# EAGLE library part ULN2003D1013TR (library e-Lib-ICs)
ULN2003 - Seven Darlington Array The ULN2001, ULN2002, ULN2003 and ULN 2004 are high voltage, high current Darlington arrays each containing seven open collector Darlington pairs with common emitters. Each channel rated at 500 mA and can withstand peak currents of 600 mA. Suppression diodes are included for inductive load driving and the inputs are pinned opposite the outputs to simplify board layout. Features: Seven Darlingtons per package Output current 500 mA per driver (600 mA peak) Output voltage 50 V Integrated suppression diodes for inductive loads Outputs can be paralleled for higher current TTL/CMOS/PMOS/DTL compatible inputs Inputs pinned opposite outputs to simplify layout Datasheet: ULN2003 <https://datasheet.lcsc.com/szlcsc/1811131510_STMicroelectronics-ULN2003D1013TR_C61273.pdf>
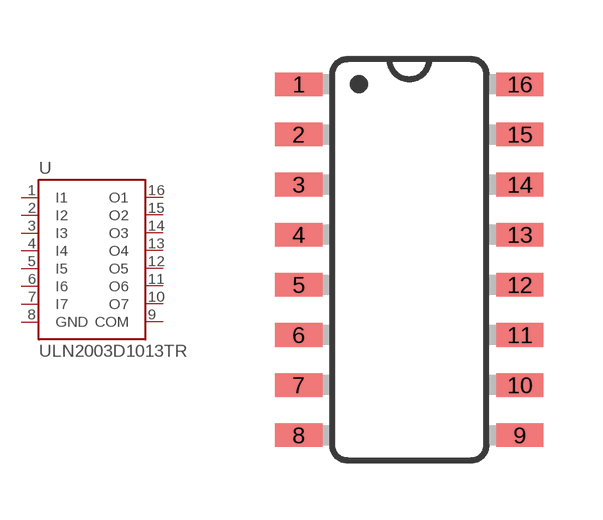
[diagram p0: symbol with the pads of SOP16; footprint SOP16]

Designator prefix U

## ULN2003D1013TR  [SOP16]
1  I1
2  I2
3  I3
4  I4
5  I5
6  I6
7  I7
8  GND
9  COM
10  O7
11  O6
12  O5
13  O4
14  O3
15  O2
16  O1

## Footprint SOP16 (pad centres in mm)
SOP-16L Specifications: Pin count: 16
smd 1.2 x 0.6: 1 -2.8,4.445; 2 -2.8,3.175; 3 -2.8,1.905; 4 -2.8,0.635; 5 -2.8,-0.635; 6 -2.8,-1.905; 7 -2.8,-3.175; 8 -2.8,-4.445; 9 2.8,-4.445; 10 2.8,-3.175; 11 2.8,-1.905; 12 2.8,-0.635; 13 2.8,0.635; 14 2.8,1.905; 15 2.8,3.175; 16 2.8,4.445